# Altium footprint library PcbLib1.PcbLib: 17 footprints (part 1 of 2)
Each footprint in its own frame and in the unit in brackets; x right, y up, seen from the top. Pads: shape width x height; smd on the part's side, far side on the other; paste and mask are expansions set on the pad; w line width, h text height; cw(c..) or ccw(c..) is an arc to the next point about the centre after c.
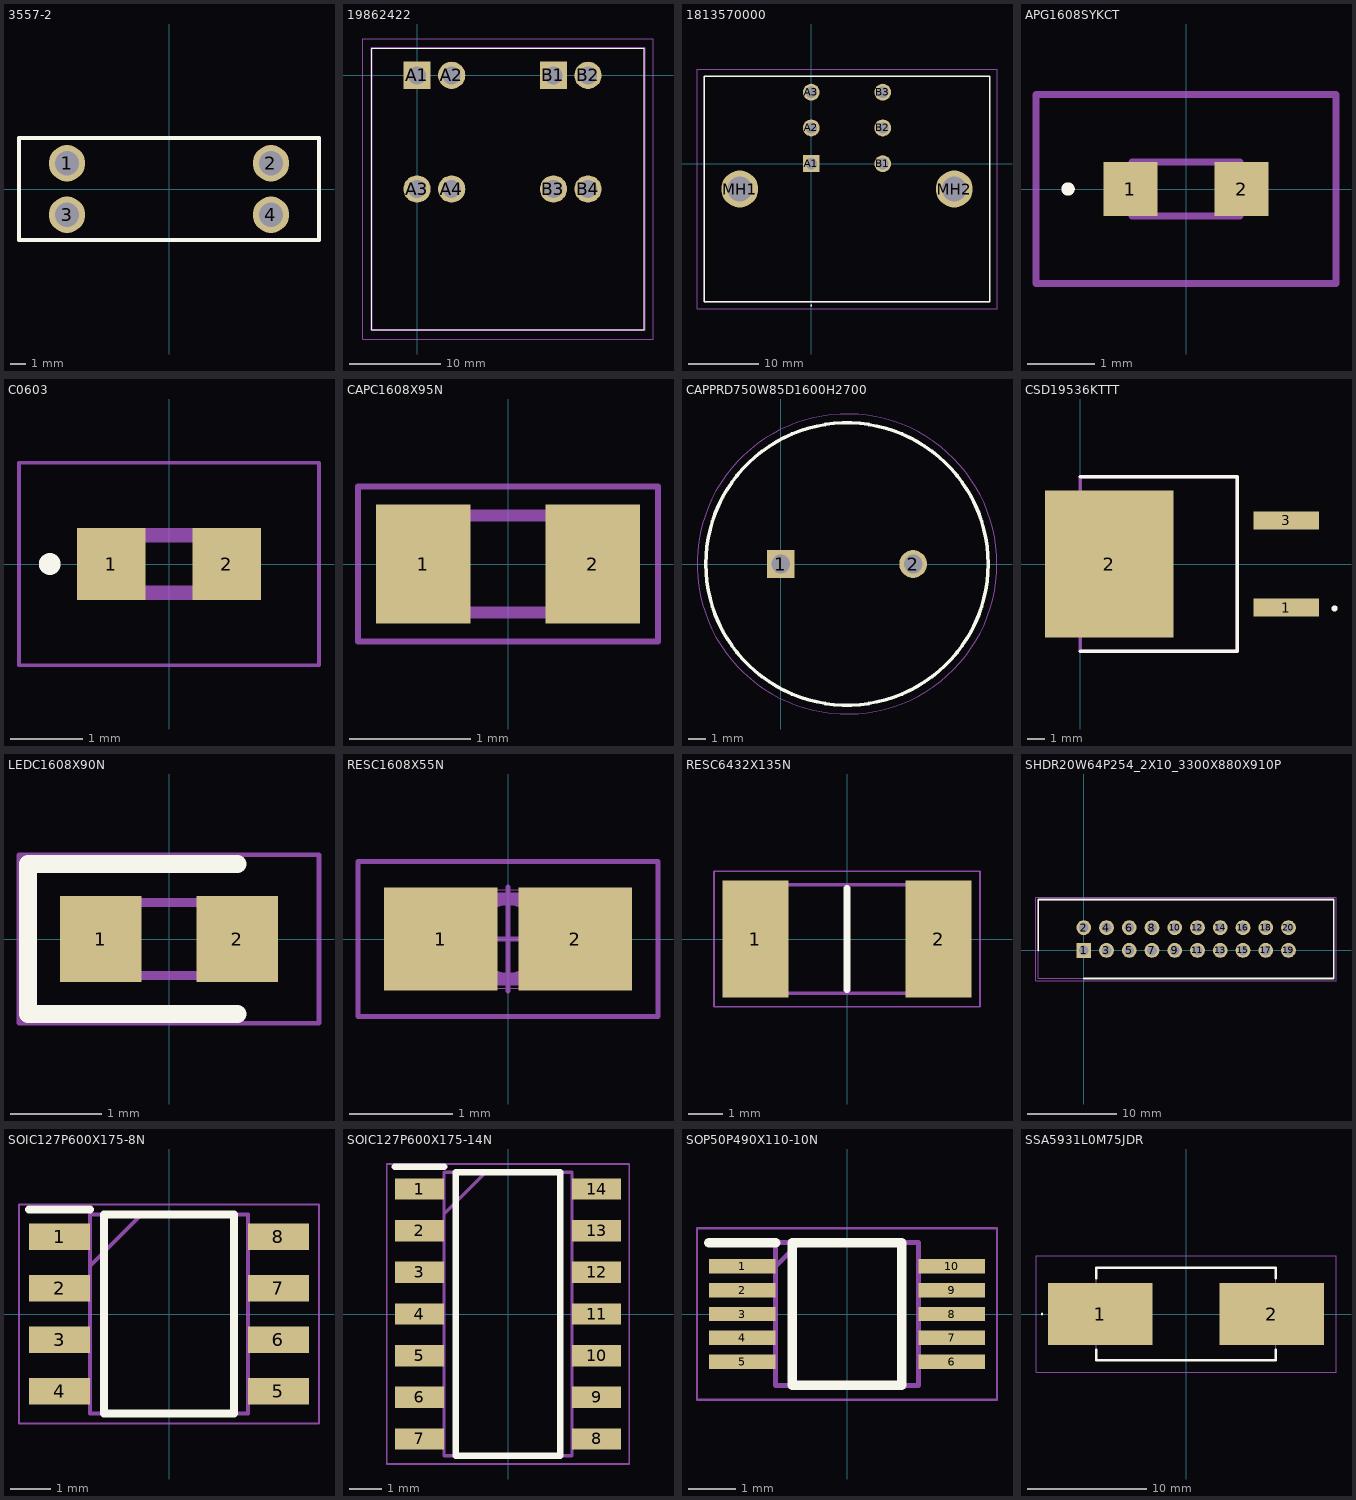
[diagram p0: the footprints below, top view; thin cyan lines are the x and y axes]

## 3557-2 [mm]
pads (4):
  round 2.4 hole 1.6: 1(-6.735,1.7) 2(6.735,1.7) 3(-6.735,-1.7) 4(6.735,-1.7)
Top Overlay:
  lines w0.254: -9.905,-3.365 -9.905,3.365 9.905,3.365 9.905,-3.365 -9.905,-3.365
Mechanical 13:
  lines w0.254: -9.905,-3.365 9.905,-3.365 9.905,3.365 -9.905,3.365 -9.905,-3.365
3D body "3557-2.stp": height -6.32, standoff -6.32, extent -9.01,15.51 -9.01,15.51

## 19862422 [mm]
pads (8):
  rect 3x3 hole 2: A1(0,0) B1(15,0)
  round 3 hole 2: A2(3.8,0) A3(0,-12.5) A4(3.8,-12.5) B2(18.8,0) B3(15,-12.5) B4(18.8,-12.5)
Top Overlay:
  lines w0.1: -5,-28 25,-28 25,3 -5,3 -5,-28
Mechanical 13:
  lines w0.2: -5,-28 25,-28 25,3 -5,3 -5,-28
Mechanical 15:
  lines w0.1: -6,-29 26,-29 26,4 -6,4 -6,-29
3D body "1986242-2.stp": height 39.28, standoff -4.22, extent -5.49,-28 24.51,3

## 1813570000 [mm]
pads (8):
  rect 2.4x2.4 hole 1.6: A1(0,0)
  round 2.4 hole 1.6: A2(0,5.08) A3(0,10.16) B1(10.16,0) B2(10.16,5.08) B3(10.16,10.16)
  round 5.25 hole 3.5: MH1(-10.16,-3.6) MH2(20.32,-3.6)
Top Overlay:
  lines w0.1: 0,-20.2 ccw(c0,-20.15) 0,-20.1 ccw(c0,-20.15) 0,-20.2
  lines w0.2: -15.24,-19.6 25.4,-19.6 25.4,12.4 -15.24,12.4 -15.24,-19.6
Mechanical 13:
  lines w0.1: -15.24,-19.6 25.4,-19.6 25.4,12.4 -15.24,12.4 -15.24,-19.6
Mechanical 15:
  lines w0.1: -16.24,-20.6 26.4,-20.6 26.4,13.4 -16.24,13.4 -16.24,-20.6
3D body "1813570000.stp": height 13.7, standoff -3.4, extent -15.24,-19.6 25.4,12.4

## APG1608SYKCT [mm]
pads (2):
  rect 0.8x0.8 smd: 1(-0.825,0) 2(0.825,0)
Top Overlay:
  lines w0.1: -1.8,0 cw(c-1.75,0) -1.7,0 cw(c-1.75,0) -1.8,0
Mechanical 13:
  lines w0.1: -0.8,-0.4 -0.8,0.4 0.8,0.4 0.8,-0.4 -0.8,-0.4
Mechanical 15:
  lines w0.1: -2.225,-1.4 -2.225,1.4 2.225,1.4 2.225,-1.4 -2.225,-1.4
3D body "APG1608SYKC_T.stp": height 0.25, standoff 0, extent -0.8,-0.4 0.8,0.4

## C0603 [mm]
pads (2):
  rect 0.95x1 smd: 1(-0.8,0) 2(0.8,0)
Top Overlay:
  circle w0.2: c-1.65,0 r0.05
Mechanical 13:
  lines w0.2: -0.8,-0.4 -0.8,0.4 0.8,0.4 0.8,-0.4 -0.8,-0.4
Mechanical 15:
  lines w0.05: -2.075,-1.4 -2.075,1.4 2.075,1.4 2.075,-1.4 -2.075,-1.4
3D body "C0603C154K5RACTU.stp": height 0.87, standoff 0, extent -0.87,-0.48 0.88,0.47

## CAPC1608X95N [mm]
pads (2):
  rect 0.78x0.98 smd: 1(-0.7,0) 2(0.7,0)
Mechanical 13:
  lines w0.1: -0.8,-0.4 -0.8,0.4 0.8,0.4 0.8,-0.4 -0.8,-0.4
Mechanical 15:
  lines w0.05: -1.24,-0.64 -1.24,0.64 1.24,0.64 1.24,-0.64 -1.24,-0.64
3D body "C0603C104K5RACTU7042.stp": height 0.87, standoff 0, extent -0.87,-0.48 0.88,0.47

## CAPPRD750W85D1600H2700 [mm]
pads (2):
  rect 1.575x1.575 hole 1.05: 1(0,0)
  round 1.575 hole 1.05: 2(7.5,0)
Top Overlay:
  circle w0.2: c3.75,0 r8
Mechanical 13:
  circle w0.1: c3.75,0 r8
Mechanical 15:
  circle w0.05: c3.75,0 r8.5
3D body "EEU-FM1H102.stp": height 27, standoff -10, extent -4.487,-8.247 12,8.247

## CSD19536KTTT [mm]
pads (3):
  rect 3.82x1.05 smd: 1(12,-2.54) 3(12,2.54)
  rect 7.48x8.55 smd: 2(1.7,0)
Top Overlay:
  circle w0.2: c14.814,-2.587 r0.082
  lines w0.2: 0,-5.08 9.15,-5.08 9.15,5.08 0,5.08
Mechanical 13:
  lines w0.2: 0,-5.08 9.15,-5.08 9.15,5.08 0,5.08 0,-5.08
3D body "CSD19536KTT.stp": height 4.7, standoff 0.01, extent -1.775,-5.07 13.725,5.07

## LEDC1608X90N [mm]
pads (2):
  rect 0.9x0.95 smd: 1(-0.75,0) 2(0.75,0)
Top Overlay:
  lines w0.2: 0.75,-0.825 -1.55,-0.825 -1.55,0.825 0.75,0.825
Mechanical 13:
  lines w0.1: -0.8,0.133 -0.533,0.4 ; -0.8,-0.4 0.8,-0.4 0.8,0.4 -0.8,0.4 -0.8,-0.4
Mechanical 15:
  lines w0.05: -1.65,-0.925 1.65,-0.925 1.65,0.925 -1.65,0.925 -1.65,-0.925
3D body "LTST-C190GKT.stp": height 0.8, standoff 0, extent -0.82,-0.4 0.78,0.4

## RESC1608X55N [mm]
pads (2):
  rect 1.1x1 smd: 1(-0.65,0) 2(0.65,0)
Mechanical 13:
  lines w0.1: -0.8,-0.4 0.8,-0.4 0.8,0.4 -0.8,0.4 -0.8,-0.4
Mechanical 15:
  circle w0.05: c0,0 r0.35
  lines w0.001: -0.85,-0.475 0.85,-0.475 0.85,0.475 -0.85,0.475 -0.85,-0.475
  lines w0.05: -0.5,0 0.5,0 ; 0,-0.5 0,0.5 ; -1.45,-0.75 1.45,-0.75 1.45,0.75 -1.45,0.75 -1.45,-0.75
3D body "RC0603FR0710KL.stp": height 0.55, standoff 0, extent -0.8,-0.4 0.8,0.4

## RESC6432X135N [mm]
pads (2):
  rect 1.95x3.45 smd: 1(-2.7,0) 2(2.7,0)
Top Overlay:
  lines w0.2: 0,-1.5 0,1.5
Mechanical 13:
  lines w0.1: -3.2,-1.6 3.2,-1.6 3.2,1.6 -3.2,1.6 -3.2,-1.6
Mechanical 15:
  lines w0.05: -3.925,-2 3.925,-2 3.925,2 -3.925,2 -3.925,-2
3D body "ERJMS4HF5M0U.stp": height 1.35, standoff 0, extent -3.2,-1.6 3.2,1.6

## SHDR20W64P254_2X10_3300X880X910P [mm]
pads (20):
  rect 1.65x1.65 hole 1.1: 1(0,0)
  round 1.65 hole 1.1: 2(0,2.54) 3(2.54,0) 4(2.54,2.54) 5(5.08,0) 6(5.08,2.54) 7(7.62,0) 8(7.62,2.54) 9(10.16,0) 10(10.16,2.54) 11(12.7,0) 12(12.7,2.54) 13(15.24,0) 14(15.24,2.54) 15(17.78,0) 16(17.78,2.54) 17(20.32,0) 18(20.32,2.54) 19(22.86,0) 20(22.86,2.54)
Top Overlay:
  lines w0.2: -5.08,0 -5.08,5.67 27.92,5.67 27.92,-3.13 0,-3.13
Mechanical 13:
  lines w0.1: -5.08,-3.13 27.92,-3.13 27.92,5.67 -5.08,5.67 -5.08,-3.13
Mechanical 15:
  lines w0.05: -5.33,-3.38 28.17,-3.38 28.17,5.92 -5.33,5.92 -5.33,-3.38
3D body "BHR-20-VUA.stp": height 9.1, standoff -3.3, extent -5.07,-3.13 27.93,5.67

## SOIC127P600X175-8N [mm]
pads (8):
  rect 1.5x0.65 smd: 1(-2.7,1.905) 2(-2.7,0.635) 3(-2.7,-0.635) 4(-2.7,-1.905) 5(2.7,-1.905) 6(2.7,-0.635) 7(2.7,0.635) 8(2.7,1.905)
Top Overlay:
  lines w0.2: -3.45,2.58 -1.95,2.58 ; -1.6,-2.45 1.6,-2.45 1.6,2.45 -1.6,2.45 -1.6,-2.45
Mechanical 13:
  lines w0.1: -1.95,1.18 -0.68,2.45 ; -1.95,-2.45 1.95,-2.45 1.95,2.45 -1.95,2.45 -1.95,-2.45
Mechanical 15:
  lines w0.05: -3.7,-2.7 3.7,-2.7 3.7,2.7 -3.7,2.7 -3.7,-2.7
3D body "MCP2561-E_SN.stp": height 1.75, standoff 0, extent -3,-2.45 3,2.45

## SOIC127P600X175-14N [mm]
pads (14):
  rect 1.5x0.65 smd: 1(-2.7,3.81) 2(-2.7,2.54) 3(-2.7,1.27) 4(-2.7,0) 5(-2.7,-1.27) 6(-2.7,-2.54) 7(-2.7,-3.81) 8(2.7,-3.81) 9(2.7,-2.54) 10(2.7,-1.27) 11(2.7,0) 12(2.7,1.27) 13(2.7,2.54) 14(2.7,3.81)
Top Overlay:
  lines w0.2: -3.45,4.485 -1.95,4.485 ; -1.6,-4.325 -1.6,4.325 1.6,4.325 1.6,-4.325 -1.6,-4.325
Mechanical 13:
  lines w0.1: -1.95,3.055 -0.68,4.325 ; -1.95,-4.325 -1.95,4.325 1.95,4.325 1.95,-4.325 -1.95,-4.325
Mechanical 15:
  lines w0.05: -3.7,-4.575 -3.7,4.575 3.7,4.575 3.7,-4.575 -3.7,-4.575
3D body "MCP2517FD-H_SL.stp": height 1.75, standoff 0, extent -3,-4.325 3,4.325

## SOP50P490X110-10N [mm]
pads (10):
  rect 1.4x0.3 smd: 1(-2.2,1) 2(-2.2,0.5) 3(-2.2,0) 4(-2.2,-0.5) 5(-2.2,-1) 6(2.2,-1) 7(2.2,-0.5) 8(2.2,0) 9(2.2,0.5) 10(2.2,1)
Top Overlay:
  lines w0.2: -2.9,1.5 -1.5,1.5 ; -1.15,-1.5 -1.15,1.5 1.15,1.5 1.15,-1.5 -1.15,-1.5
Mechanical 13:
  lines w0.1: -1.5,1 -1,1.5 ; -1.5,-1.5 -1.5,1.5 1.5,1.5 1.5,-1.5 -1.5,-1.5
Mechanical 15:
  lines w0.05: -3.15,-1.8 -3.15,1.8 3.15,1.8 3.15,-1.8 -3.15,-1.8
3D body "LM5069MMX-1_NOPB.stp": height 1.1, standoff 0, extent -2.463,-1.5 2.463,1.5

## SSA5931L0M75JDR [mm]
pads (2):
  rect 8.75x5.2 smd: 1(-7.175,0) 2(7.175,0)
Top Overlay:
  lines w0.1: -12.1,0 ccw(c-12.05,0) -12,0 ccw(c-12.05,0) -12.1,0
  lines w0.2: -7.5,-3 -7.5,-3.875 7.5,-3.875 7.5,-3 ; -7.5,3 -7.5,3.875 7.5,3.875 7.5,3
Mechanical 13:
  lines w0.1: -7.5,-3.875 -7.5,3.875 7.5,3.875 7.5,-3.875 -7.5,-3.875
Mechanical 15:
  lines w0.1: -12.55,-4.875 -12.55,4.875 12.55,4.875 12.55,-4.875 -12.55,-4.875
3D body "SSA5931L0M75JDR.stp": height 0.48, standoff 0, extent -11.03,-3.875 11.03,3.875